# EAGLE library part 629105150521 (library Wurth_Elektronik_Electromechanic_Input-Output_Connectors_rev15c)
WR-COM_USB_Micro Type B_Horizontal_SMT ; Micro Type B Horizontal SMT - 3A current at Pin1 & Pin 5 - with Pegs and THT shielding Pins - T&R Packaging Code : Con_I-O_COM_USB_2.0_B_629105150521_629105150521 <http://katalog.we-online.de/media/images/eican/Con_I-O_COM_USB_2.0_B_629105150521_pf2.jpg> Details see: http://katalog.we-online.de/em/datasheet/629105150521.pdf Created 12/08/2014, Dan Xu 2014 (C) Wurth Elektronik
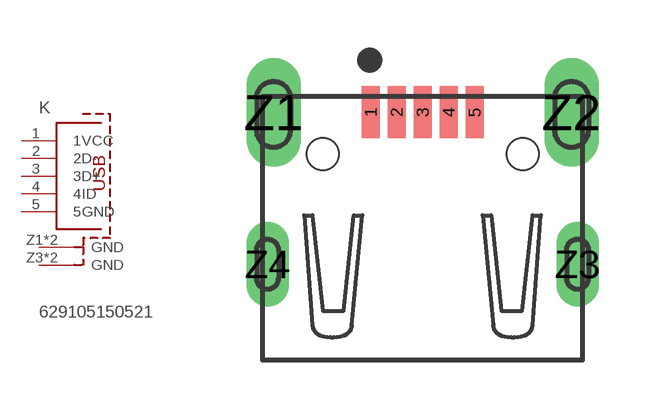
[diagram p157: symbol with the pads of 629105150521; footprint 629105150521]

Designator prefix K

## 629105150521  [629105150521]
1  1VCC  pas
2  2D-  pas
3  3D+  pas
4  4ID  pas
5  5GND  pas
Z1  GND
Z2  GND
Z3  GND
Z4  GND

## Footprint 629105150521 (pad centres in mm)
629105150521 WR-COM_USB_Micro Type B_Horizontal_SMT Micro Type B Horizontal SMT - 3A current at Pin1 & Pin 5 - with Pegs and THT shielding Pins - T&R Packaging
smd 0.45 x 1.3: 1 -1.3,3.8; 2 -0.65,3.8; 3 0,3.8; 4 0.65,3.8; 5 1.3,3.8
drill 0.85 pad 1.2 long: Z1 -3.725,3.8; Z2 3.725,3.8
drill 0.55 pad 0.9 long: Z3 3.875,0; Z4 -3.875,0
hole 0.8 at -2.5,2.75
hole 0.8 at 2.5,2.75